# Altium integrated library example-8.IntLib: 1 symbol
Pins are listed as number, name and electrical type; pins without a type are passive.

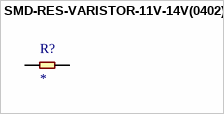
[diagram p0: symbol SMD-RES-VARISTOR-11V-14V(0402)]

## SMD-RES-VARISTOR-11V-14V(0402)
designator R?
314130001; MP: CG0402MLA-14KG; Package: None; Price: None; Value: *; Availability: Unavailable
footprint R0402
pins: 1, 2